# EAGLE library part ESP-12 (library homemade-hardware)
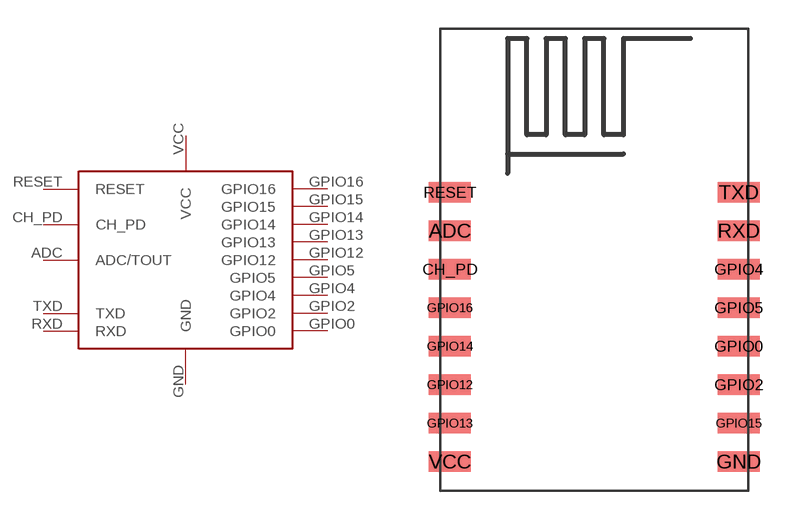
[diagram p2: symbol with the pads of SOC-ESP12; footprint SOC-ESP12]

Designator prefix -

## ESP-12  [SOC-ESP12]
ADC  ADC/TOUT
CH_PD  CH_PD
GND  GND
GPIO0  GPIO0
GPIO2  GPIO2
GPIO4  GPIO4
GPIO5  GPIO5
GPIO12  GPIO12
GPIO13  GPIO13
GPIO14  GPIO14
GPIO15  GPIO15
GPIO16  GPIO16
RESET  RESET
RXD  RXD
TXD  TXD
VCC  VCC

## Footprint SOC-ESP12 (pad centres in mm)
smd 2.184 x 1.067: ADC -7.5,1.5; CH_PD -7.5,-0.5; GND 7.5,-10.5; GPIO0 7.5,-4.5; GPIO2 7.5,-6.5; GPIO4 7.5,-0.5; GPIO5 7.5,-2.5; GPIO12 -7.5,-6.5; GPIO13 -7.5,-8.5; GPIO14 -7.5,-4.5; GPIO15 7.5,-8.5; GPIO16 -7.5,-2.5; RESET -7.5,3.5; RXD 7.5,1.5; TXD 7.5,3.5; VCC -7.5,-10.5